# Altium footprint library SHOTTKY_SS10P4.PcbLib: 1 footprints
Each footprint in its own frame and in the unit in brackets; x right, y up, seen from the top. Pads: shape width x height; smd on the part's side, far side on the other; paste and mask are expansions set on the pad; w line width, h text height; cw(c..) or ccw(c..) is an arc to the next point about the centre after c.
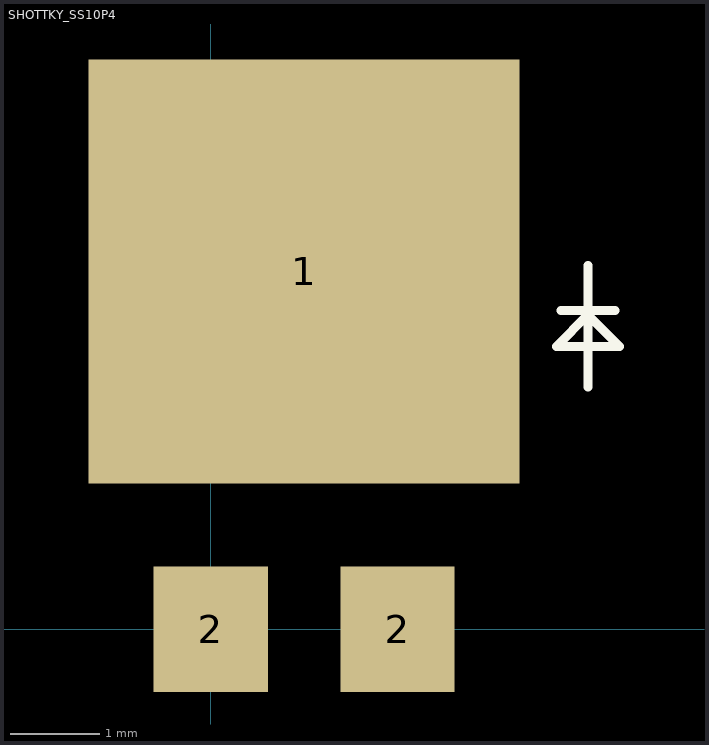
[diagram p0: the footprint, top view; thin cyan lines are the x and y axes]

## SHOTTKY_SS10P4 [mm] "Shottky Diode 10A, 0.41V  Vishay Pin1=Anode"
pads (3):
  rect 4.8x4.72 smd: 1(1.04,3.985)
  rect 1.27x1.4 smd: 2(0,0) 2(2.08,0)
Top Overlay:
  lines w0.1: 3.9,3.55 4.5,3.55 ; 4.2,2.7 4.2,4.05 ; 4.2,3.5 4.55,3.15 3.85,3.15 4.2,3.5 ; 4.2,3.5 4.2,3.5
3D body: height 1.2, standoff 0, extent -1.125,-0.2 3.225,5.95